# Altium schematic symbol library DIO.SCHLIB: 1 symbol
Pins are listed as number, name and electrical type; pins without a type are passive.

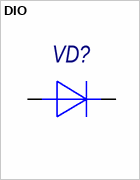
[diagram p0: symbol DIO]

## DIO
designator VD?
pins: 1 C, 2 A